# EAGLE library part OPA388IDGKR (library OPA388IDGKR)
10MHz, CMOS, Zero-Drift, Zero-Crossover, True RRIO Precision Operational Amplifier Source: Datasheet <http://www.ti.com/lit/gpn/opa388>
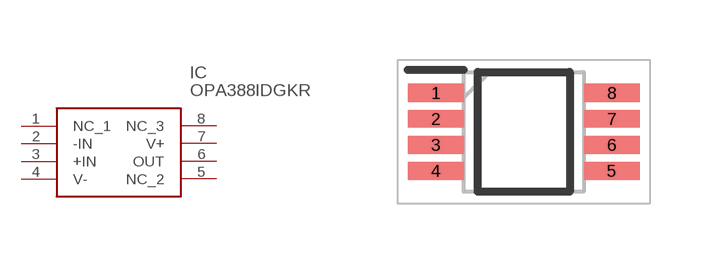
[diagram p0: symbol with the pads of SOP65P490X110-8N; footprint SOP65P490X110-8N]

Designator prefix IC

## OPA388IDGKR (Description: 10MHz, CMOS, Zero-Drift, Zero-Crossover, True RRIO Precision Operational Amplifier; Height: 1.1mm; Manufacturer_Name: Texas Instruments; Manufacturer_Part_Number: OPA388IDGKR; Mouser_Part_Number: 595-OPA388IDGKR; Mouser_Price-Stock: https://www.mouser.co.uk/ProductDetail/Texas-Instruments/OPA388IDGKR?qs=HXFqYaX1Q2zq4dYzVXACyQ%3D%3D)  [SOP65P490X110-8N]
1  NC_1
2  -IN
3  +IN
4  V-
5  NC_2
6  OUT
7  V+
8  NC_3

## Footprint SOP65P490X110-8N (pad centres in mm)
OPA388IDGKR-1
smd 1.4 x 0.45: 1 -2.2,0.975; 2 -2.2,0.325; 3 -2.2,-0.325; 4 -2.2,-0.975; 5 2.2,-0.975; 6 2.2,-0.325; 7 2.2,0.325; 8 2.2,0.975